# Altium schematic symbol library LC709205F.SchLib: 1 symbol
Pins are listed as number, name and electrical type; pins without a type are passive.

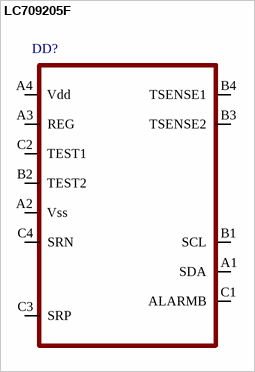
[diagram p0: symbol LC709205F]

## LC709205F
designator DD?
pins: A1 SDA, A2 Vss, A3 REG, A4 Vdd, B1 SCL, B2 TEST2, B3 TSENSE2, B4 TSENSE1, C1 ALARMB, C2 TEST1, C3 SRP, C4 SRN